# Altium footprint library mainboard.PcbLib: 70 footprints (part 4 of 5)
Each footprint in its own frame and in the unit in brackets; x right, y up, seen from the top. Pads: shape width x height; smd on the part's side, far side on the other; paste and mask are expansions set on the pad; w line width, h text height; cw(c..) or ccw(c..) is an arc to the next point about the centre after c.
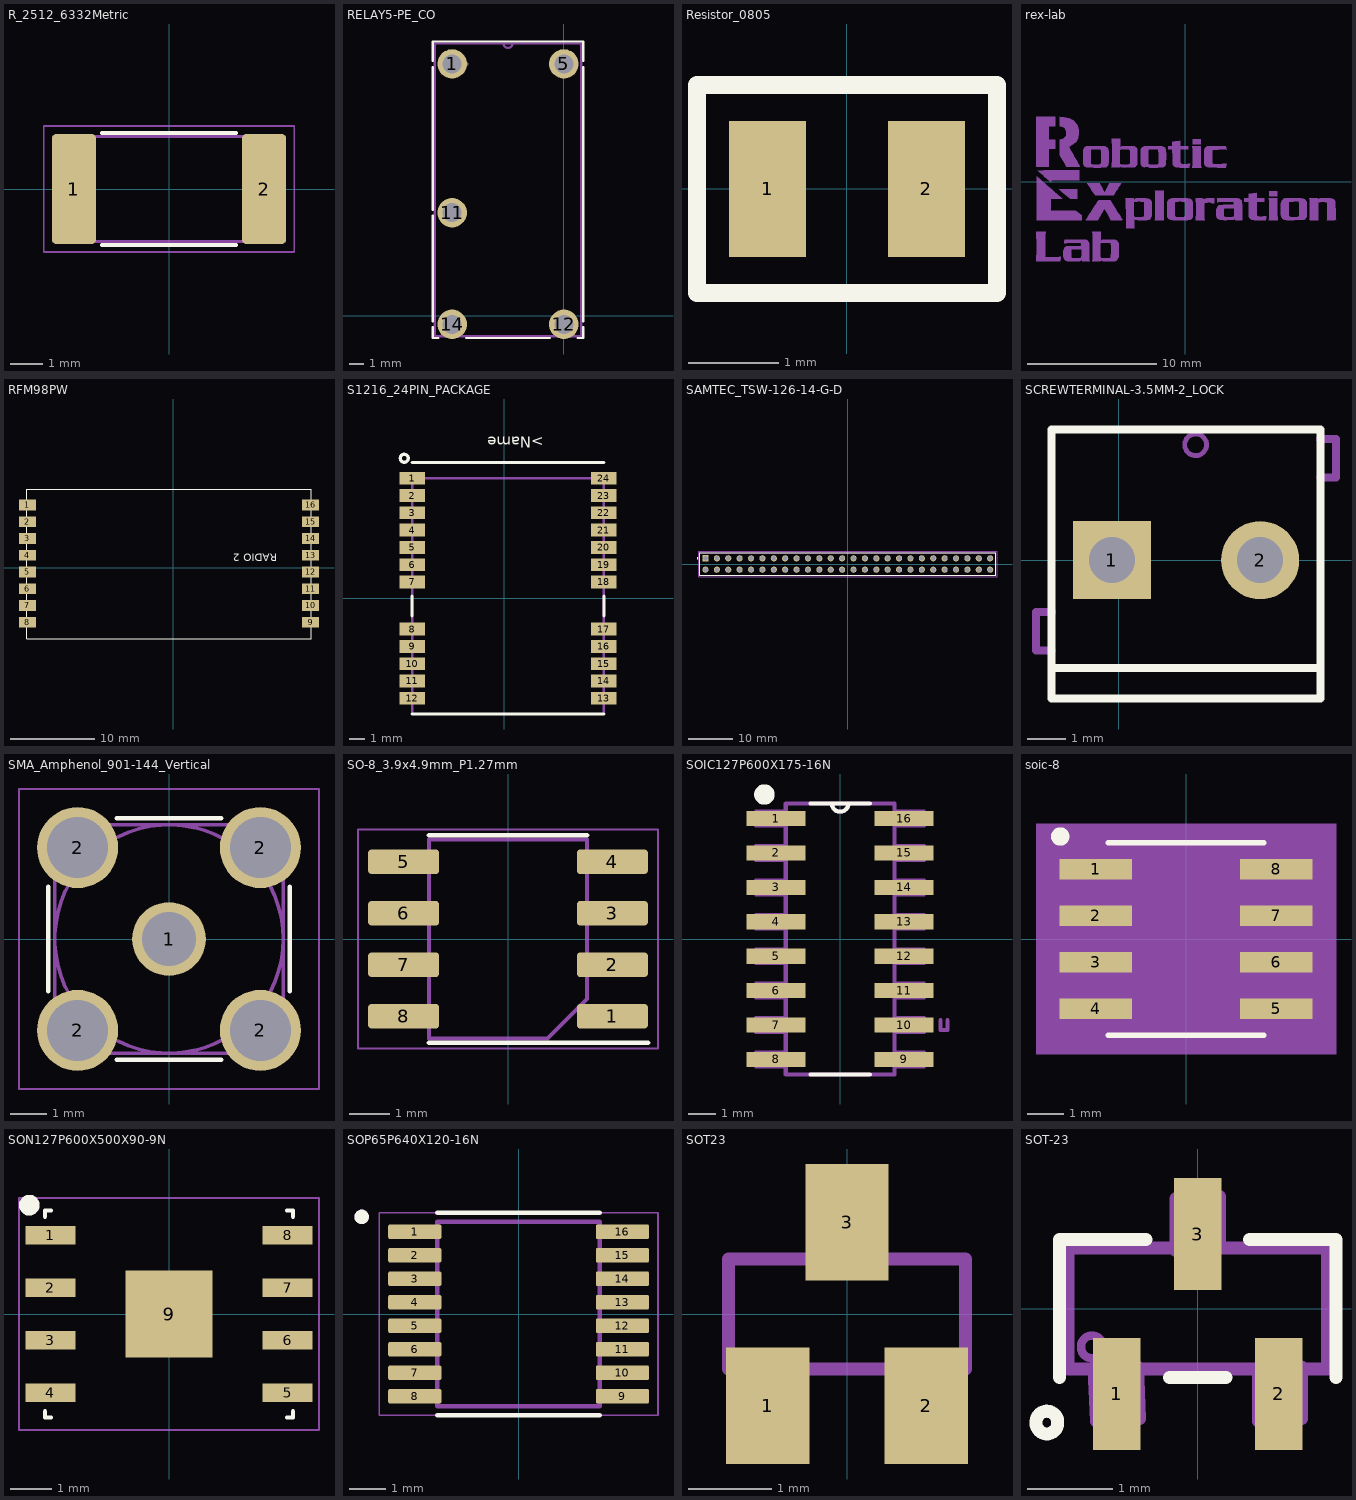
[diagram p3: the footprints below, top view; thin cyan lines are the x and y axes]

## R_2512_6332Metric [mm]
pads (2):
  rrect19% 1.35x3.35 smd mask+0.051: 1(-2.9,0) 2(2.9,0)
Top Overlay:
  lines w0.12: -2.052,-1.71 2.052,-1.71 ; -2.052,1.71 2.052,1.71
Mechanical 4:
  lines w0.05: -3.82,-1.92 -3.82,1.92 3.82,1.92 3.82,-1.92 -3.82,-1.92
Mechanical 6:
  lines w0.1: -3.15,-1.6 -3.15,1.6 3.15,1.6 3.15,-1.6 -3.15,-1.6
  text "R8" at -0.234,-0.253 h0.89

## RELAY5-PE_CO [mil]
pads (5):
  round 79 hole 51 paste-79 mask+2.5: 1(-300,677) 5(0,677) 11(-300,277) 12(0,-23) 14(-300,-23)
Top Overlay:
  lines w6: -352,-31 -352,-60 -337,-60 ; -352,-15 -352,269 ; -352,285 -352,669 ; -352,685 -352,737 52,737 52,685 ; -263,-60 -37,-60 ; 37,-60 52,-60 52,-31 ; 52,-15 52,669
Mechanical 6:
  lines w3.94: -264,677 ccw(c-261,677) -258,677 ccw(c-261,677) -264,677
  lines w6: -162,732 ccw(c-150,732) -138,732 ; -162,732 -138,732 ; -162,732 -347,732 -347,-55 47,-55 47,732 -138,732

## Resistor_0805 [mm]
pads (2):
  rect 0.85x1.5 smd: 1(-0.875,0) 2(0.875,0)
Top Overlay:
  lines w0.2: -1.651,-1.143 -1.651,0.144 -1.651,1.143 1.651,1.143 1.651,-1.143 -1.651,-1.143

## rex-lab [mm]
Top Solder:
  drawing of 27 lines, arcs and shapes, not listed

## RFM98PW [mm]
pads (16):
  rect 2x1.3 smd mask+0.064: 1(-17.408,7.5) 2(-17.408,5.5) 3(-17.408,3.5) 4(-17.408,1.5) 5(-17.408,-0.5) 6(-17.408,-2.5) 7(-17.408,-4.5) 8(-17.408,-6.5) 9(16.408,-6.5) 10(16.408,-4.5) 11(16.408,-2.5) 12(16.408,-0.5) 13(16.408,1.5) 14(16.408,3.5) 15(16.408,5.5) 16(16.408,7.5)
Top Overlay:
  lines w0.127: -17.508,-8.5 16.508,-8.5 16.508,9.4 -17.508,9.4 -17.508,-8.5
  text "RADIO 2" at 12.446,2.007 h1.59

## S1216_24PIN_PACKAGE [mil]
pads (24):
  rect 64x32 smd mask+2.5: 1(-230.31,300) 2(-230.31,256.69) 3(-230.31,213.39) 4(-230.31,170.08) 5(-230.31,126.77) 6(-230.31,83.46) 7(-230.31,40.16) 8(-230.31,-77.95) 9(-230.31,-121.26) 10(-230.31,-164.57) 11(-230.31,-207.87) 12(-230.31,-251.18) 13(250,-251.18) 14(250,-207.87) 15(250,-164.57) 16(250,-121.26) 17(250,-77.95) 18(250,40.16) 19(250,83.46) 20(250,126.77) 21(250,170.08) 22(250,213.39) 23(250,256.69) 24(250,300)
Top Overlay:
  circle w8: c-250,350 r10
  lines w8: -230.31,-290.55 250,-290.55 ; -230.31,-45 -230.31,5 ; -230.31,339.37 250,339.37 ; 250,-45 250,5
  text ">Name" at 100,413.39 h47.5
Mechanical 5:
  lines w6: -230.31,-290.55 -230.31,300 250,300 250,-290.55 -230.31,-290.55

## SAMTEC_TSW-126-14-G-D [mm]
pads (52):
  rect 1.37x1.37 hole 1.02: 01(-31.737,1.283)
  round 1.37 hole 1.02: 02(-31.737,-1.257) 03(-29.197,1.283) 04(-29.197,-1.257) 05(-26.657,1.283) 06(-26.657,-1.257) 07(-24.117,1.283) 08(-24.117,-1.257) 09(-21.577,1.283) 10(-21.577,-1.257) 11(-19.037,1.283) 12(-19.037,-1.257) 13(-16.497,1.283) 14(-16.497,-1.257) 15(-13.957,1.283) 16(-13.957,-1.257) 17(-11.417,1.283) 18(-11.417,-1.257) 19(-8.877,1.283) 20(-8.877,-1.257) 21(-6.337,1.283) 22(-6.337,-1.257) 23(-3.797,1.283) 24(-3.797,-1.257) 25(-1.257,1.283) 26(-1.257,-1.257) 27(1.283,1.283) 28(1.283,-1.257) 29(3.823,1.283) 30(3.823,-1.257) 31(6.363,1.283) 32(6.363,-1.257) 33(8.903,1.283) 34(8.903,-1.257) 35(11.443,1.283) 36(11.443,-1.257) 37(13.983,1.283) 38(13.983,-1.257) 39(16.523,1.283) 40(16.523,-1.257) 41(19.063,1.283) 42(19.063,-1.257) 43(21.603,1.283) 44(21.603,-1.257) 45(24.143,1.283) 46(24.143,-1.257) 47(26.683,1.283) 48(26.683,-1.257) 49(29.223,1.283) 50(29.223,-1.257) 51(31.763,1.283) 52(31.763,-1.257)
Top Overlay:
  circle w0.2: c-33.528,1.27 r0.1
  lines w0.2: -33.007,-2.527 33.033,-2.527 33.033,2.553 -33.007,2.553 -33.007,-2.527
Mechanical 13:
  circle w0.2: c-33.528,1.27 r0.1
  lines w0.1: -33.007,-2.527 33.033,-2.527 33.033,2.553 -33.007,2.553 -33.007,-2.527
Mechanical 15:
  lines w0.05: -33.257,-2.777 33.283,-2.777 33.283,2.803 -33.257,2.803 -33.257,-2.777
3D body "TSW-126-14-G-D.stp": height 10.67, standoff -2.79, extent -33.007,-2.527 33.033,2.553

## SCREWTERMINAL-3.5MM-2_LOCK [mil]
pads (2):
  rect 80x80 hole 47.24 paste-80 mask+2.5: 1(-7,0)
  round 80 hole 47.24 paste-80 mask+2.5: 2(144.8,0)
Top Overlay:
  lines w8: -68.9,-110.24 206.69,-110.24 ; -68.9,-110.24 -68.9,133.86 206.69,133.86 206.69,-110.24 ; -68.9,-110.24 -68.9,-141.73 206.69,-141.73 206.69,-110.24
Mechanical 6:
  circle w1: c137.8,0 r17
  circle w1: c0,0 r17
  circle w5: c78.74,118.11 r11.13
  lines w8: -68.9,-92.52 -84.65,-92.52 -84.65,-53.15 -68.9,-53.15 ; 206.69,84.65 222.44,84.65 222.44,124.02 206.69,124.02

## SMA_Amphenol_901-144_Vertical [mm]
pads (5):
  round 2.05 hole 1.5 paste-2.05 mask+0.051: 1(0,0)
  round 2.25 hole 1.7 paste-2.25 mask+0.051: 2(-2.54,-2.54) 2(-2.54,2.54) 2(2.54,-2.54) 2(2.54,2.54)
Top Overlay:
  lines w0.12: -3.355,-1.45 -3.355,1.45 ; -1.45,-3.355 1.45,-3.355 ; -1.45,3.355 1.45,3.355 ; 3.355,-1.45 3.355,1.45
Mechanical 4:
  lines w0.05: -4.17,-4.17 -4.17,4.17 4.17,4.17 4.17,-4.17 -4.17,-4.17
Mechanical 6:
  circle w0.1: c0,0 r3.175
  lines w0.1: -3.175,-3.175 3.175,-3.175 3.175,3.175 -3.175,3.175 -3.175,-3.175
  text "J7" at -0.207,-0.321 h0.89

## SO-8_3.9x4.9mm_P1.27mm [mm]
pads (8):
  rrect25% 1.75x0.6 smd mask+0.051: 1(2.575,-1.905) 2(2.575,-0.635) 3(2.575,0.635) 4(2.575,1.905) 5(-2.575,1.905) 6(-2.575,0.635) 7(-2.575,-0.635) 8(-2.575,-1.905)
Top Overlay:
  lines w0.12: -1.95,-2.56 0,-2.56 3.45,-2.56 ; -1.95,2.56 0,2.56 1.95,2.56
Mechanical 3:
  lines w0.05: -3.7,-2.7 -3.7,2.7 3.7,2.7 3.7,-2.7 -3.7,-2.7
Mechanical 5:
  lines w0.1: -1.95,-2.45 0.975,-2.45 1.95,-1.475 1.95,2.45 -1.95,2.45 -1.95,-2.45
  text "U1" at -0.213,-0.25 h0.89

## SOIC127P600X175-16N [mil]
pads (16):
  rect 86x22 smd: 1(-93,175) 2(-93,125) 3(-93,75) 4(-93,25) 5(-93,-25) 6(-93,-75) 7(-93,-125) 8(-93,-175) 9(93,-175) 10(93,-125) 11(93,-75) 12(93,-25) 13(93,25) 14(93,75) 15(93,125) 16(93,175)
Top Overlay:
  circle w19.68: c-110,210 r5
  lines w6: -43,-197 43,-197 ; -43,197 -12,197 ; 43,197 12,197 ; -12,197 ccw(c0,197) 12,197 ; -12,197 12,197
Mechanical 13:
  lines w6: 146,-118 146,-132 156,-132 156,-118 ; -12,197 ccw(c0,197) 12,197 ; -12,197 12,197 ; -12,197 -79,197 -79,-197 79,-197 79,197 12,197 ; -122,-185 -122,-165 -79,-165 -79,-185 -122,-185 ; -122,-135 -122,-115 -79,-115 -79,-135 -122,-135 ; -122,-85 -122,-65 -79,-65 -79,-85 -122,-85 ; -122,-35 -122,-15 -79,-15 -79,-35 -122,-35 ; -122,15 -122,35 -79,35 -79,15 -122,15 ; -122,65 -122,85 -79,85 -79,65 -122,65 ; -122,115 -122,135 -79,135 -79,115 -122,115 ; -122,165 -122,185 -79,185 -79,165 -122,165 ; 79,-185 79,-165 122,-165 122,-185 79,-185 ; 79,-135 79,-115 122,-115 122,-135 79,-135 ; 79,-85 79,-65 122,-65 122,-85 79,-85 ; 79,-35 79,-15 122,-15 122,-35 79,-35 ; 79,15 79,35 122,35 122,15 79,15 ; 79,65 79,85 122,85 122,65 79,65 ; 79,115 79,135 122,135 122,115 79,115 ; 79,165 79,185 122,185 122,165 79,165
  text "*" at -126,192 h50
  text "*" at -126,192 h50
3D body "step_temp.STEP": height 68.9, standoff 0, extent -118.11,-194.88 118.11,194.88

## soic-8 [mil]
pads (8):
  rect 78x22 smd paste+0 mask+0: 1(-97,75) 2(-97,25) 3(-97,-25) 4(-97,-75) 5(97,-75) 6(97,-25) 7(97,25) 8(97,75)
Top Overlay:
  circle w9.84: c-135,110 r4.92
  lines w6: -83.5,-103.5 83.5,-103.5 ; -83.5,103.5 83.5,103.5
Mechanical 5:
  region: 161,-123.5 -161,-123.5 -161,123.5 161,123.5
Mechanical 13:
  lines w0: -12,98.5 ccw(c0,98.5) 12,98.5
  lines w1: -122,-85 -78.5,-85 -78.5,-65 -122,-65 -122,-85 ; -122,-35 -78.5,-35 -78.5,-15 -122,-15 -122,-35 ; -122,15 -78.5,15 -78.5,35 -122,35 -122,15 ; -122,65 -78.5,65 -78.5,85 -122,85 -122,65 ; -78.5,-98.5 -78.5,98.5 78.5,98.5 78.5,-98.5 -78.5,-98.5 ; 78.5,-85 122,-85 122,-65 78.5,-65 78.5,-85 ; 78.5,-35 122,-35 122,-15 78.5,-15 78.5,-35 ; 78.5,15 122,15 122,35 78.5,35 78.5,15 ; 78.5,65 122,65 122,85 78.5,85 78.5,65
  text "*" at -76,45.5 h50
Mechanical 15:
  region: -88.5,-96 -146,-96 -146,96 -88.5,96 -88.5,108.5 88.5,108.5 88.5,96 146,96 146,-96 88.5,-96 88.5,-108.5 -88.5,-108.5
  lines w6: -146,-96 -88.5,-96 -88.5,-108.5 88.5,-108.5 88.5,-96 146,-96 146,96 88.5,96 88.5,108.5 -88.5,108.5 -88.5,96 -146,96 -146,-96
3D body "R_8_ADI.step": height 69.09, standoff 0, extent -122.01,-98.5 122.01,98.5

## SON127P600X500X90-9N [mm]
pads (9):
  rect 1.2x0.45 smd mask+0.064: 1(-2.865,1.905) 2(-2.865,0.635) 3(-2.865,-0.635) 4(-2.865,-1.905) 5(2.865,-1.905) 6(2.865,-0.635) 7(2.865,0.635) 8(2.865,1.905)
  rect 2.1x2.1 smd mask+0.064: 9(0,0)
Top Overlay:
  circle w0.25: c-3.375,2.63 r0.125
  lines w0.1: -3.001,2.35 -3,2.5 -2.85,2.499 ; -2.999,-2.35 -3,-2.5 -2.85,-2.501 ; 2.85,-2.499 3,-2.5 3.001,-2.35 ; 2.85,2.501 3,2.5 2.999,2.35
Mechanical 2:
  lines w0.05: -3.625,-2.8 -3.625,2.8 3.625,2.8 3.625,-2.8 -3.625,-2.8

## SOP65P640X120-16N [mm]
pads (16):
  rrect25% 1.47x0.41 smd: 1(-2.87,2.275) 2(-2.87,1.625) 3(-2.87,0.975) 4(-2.87,0.325) 5(-2.87,-0.325) 6(-2.87,-0.975) 7(-2.87,-1.625) 8(-2.87,-2.275) 9(2.87,-2.275) 10(2.87,-1.625) 11(2.87,-0.975) 12(2.87,-0.325) 13(2.87,0.325) 14(2.87,0.975) 15(2.87,1.625) 16(2.87,2.275)
Top Overlay:
  circle w0.2: c-4.34,2.685 r0.1
  lines w0.127: -2.25,-2.8 2.25,-2.8 ; -2.25,2.8 2.25,2.8
Mechanical 13:
  circle w0.2: c-4.34,2.685 r0.1
  lines w0.127: -2.25,-2.55 2.25,-2.55 2.25,2.55 -2.25,2.55 -2.25,-2.55
Mechanical 15:
  lines w0.05: -3.855,-2.8 3.855,-2.8 3.855,2.8 -3.855,2.8 -3.855,-2.8
3D body "step_temp.STEP": height 1.2, standoff 0, extent -3.2,-2.5 3.2,2.5

## SOT23 [mm]
pads (3):
  rect 1x1.4 smd mask+0.064: 1(-0.95,-1.1) 2(0.95,-1.1) 3(0,1.1)
Mechanical 6:
  region: 0.229,0.711 -0.229,0.711 -0.229,1.295 0.229,1.295
  region: 1.168,-1.295 0.711,-1.295 0.711,-0.711 1.168,-0.711
  region: -0.711,-1.295 -1.168,-1.295 -1.168,-0.711 -0.711,-0.711
  lines w0.152: -1.422,-0.66 1.422,-0.66 1.422,0.66 -1.422,0.66 -1.422,-0.66

## SOT-23 [mil]
pads (3):
  rect 22x52 smd mask+2.5: 1(-37.5,-39.5) 2(37.5,-39.5) 3(0,34.5)
Top Overlay:
  lines w6: -64.87,-53.02 cw(c-69.87,-53.02) -74.87,-53.02 cw(c-69.87,-52.52) -64.87,-52.02 ; -64,-32 -64,32 -24,32 ; -13,-32 13,-32 ; 24,32 64,32 64,-32
Mechanical 6:
  lines w3.94: -44,-18 cw(c-49,-18) -54,-18 cw(c-49,-17.5) -44,-17
  lines w6: -60,-28 -60,28 60,28 60,-28 -60,-28 ; -48,-28 -47,-52 -27,-51 -28,-27 -48,-28 ; -10,27 -10,51 10,52 10,28 -10,27 ; 28,-52 48,-51 48,-27 28,-28 28,-52